# Altium integrated library Micron Memory Parallel NOR Flash.IntLib: 720 symbols (part 144 of 216)
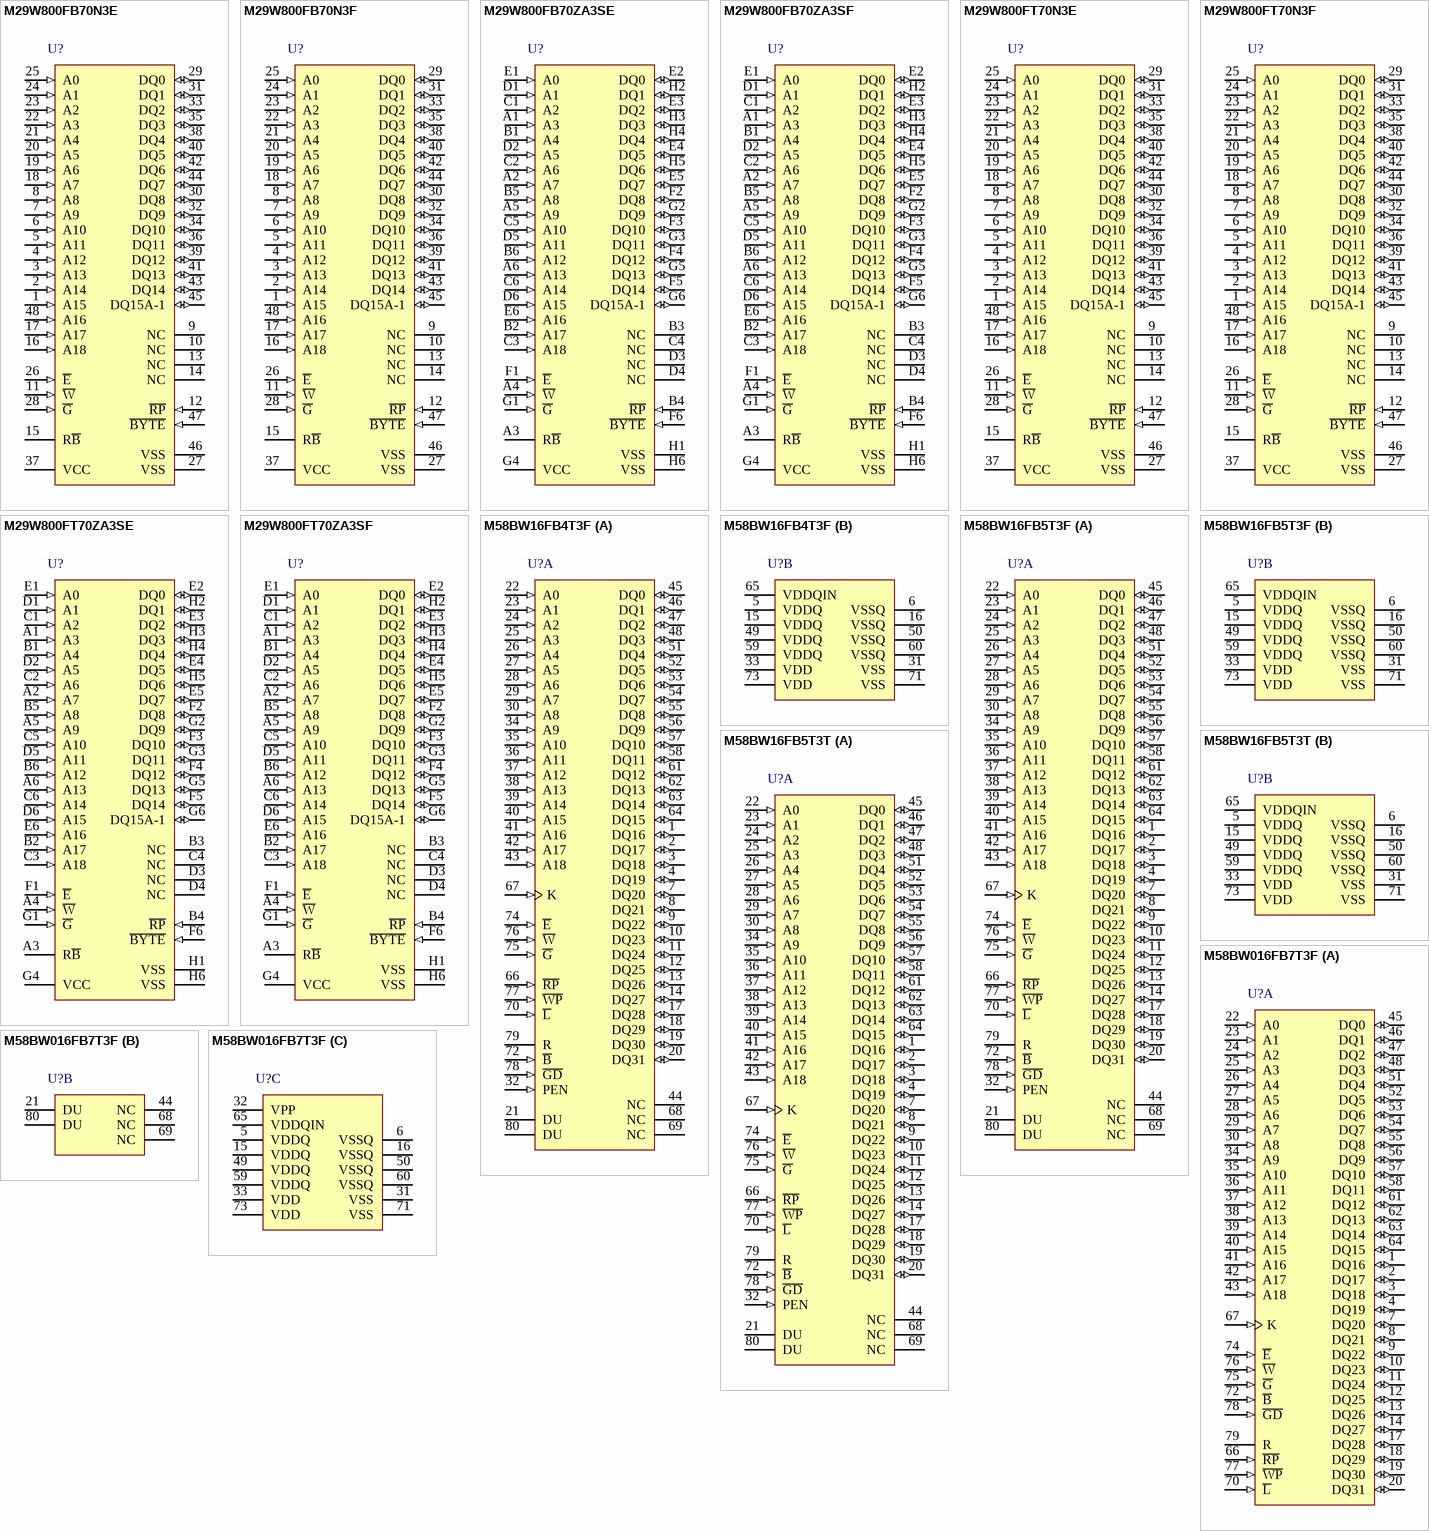
[diagram p280: symbols M29W800FB70N3E to M58BW016FB7T3F]

## M58BW16FB5T3F
designator U?
16 Mb (x32) Automotive Parallel NOR Flash Memory, 55 ns, 2.7 to 3.6 V, 80-pin PQFP (T), Tape & Reel; Part Family: M58BW; Manufacturer: Micron; PartNumber: M58BW16FB5T3F; Density: 16Mb; Op Temp: -40C to +125C; Speed: 55ns; Voltage: 2.7V-3.6V; DatasheetVersion: Rev. 6; PackageVersion: Rev 18; PackageReference: MICT-T-80; PackageDescription: 80-Pin PQFP, 20 X 14 mm, Pitch 0.8 mm; RoHS: Yes; Width: x32; Mounting Technology: Surface Mount; ComponentLink1Description: Manufacturer URL; ComponentLink1URL: http://www.micron.com/; ComponentLink2Description: Datasheet; ComponentLink2URL: http://www.micron.com/~/media/Documents/Products/Data%20Sheet/NOR%20Flash/M58BW16_32F.pdf; ComponentLink3Description: Package Specification; ComponentLink3URL: http://www.micron.com/~/media/Documents/Products/Data%20Sheet/NOR%20Flash/Parallel/P30/306666_P30_130nm_Discrete_DS.pdf
footprint MICT-T-80_N (QFP, 80-Leads, Body 20x14mm, Pitch 0.8mm, IPC Medium Density)
part A pins: 1 DQ16 (io) "The Data inputs/outputs output the data stored at the selected address during a Bus Read  operation, or are used to input the data during a program operation. During Bus Write  operations they represent the commands sent to (See Datasheet)", 2 DQ17 (io) "The Data inputs/outputs output the data stored at the selected address during a Bus Read  operation, or are used to input the data during a program operation. During Bus Write  operations they represent the commands sent to (See Datasheet)", 3 DQ18 (io) "The Data inputs/outputs output the data stored at the selected address during a Bus Read  operation, or are used to input the data during a program operation. During Bus Write  operations they represent the commands sent to (See Datasheet)", 4 DQ19 (io) "The Data inputs/outputs output the data stored at the selected address during a Bus Read  operation, or are used to input the data during a program operation. During Bus Write  operations they represent the commands sent to (See Datasheet)", 7 DQ20 (io) "The Data inputs/outputs output the data stored at the selected address during a Bus Read  operation, or are used to input the data during a program operation. During Bus Write  operations they represent the commands sent to (See Datasheet)", 8 DQ21 (io) "The Data inputs/outputs output the data stored at the selected address during a Bus Read  operation, or are used to input the data during a program operation. During Bus Write  operations they represent the commands sent to (See Datasheet)", 9 DQ22 (io) "The Data inputs/outputs output the data stored at the selected address during a Bus Read  operation, or are used to input the data during a program operation. During Bus Write  operations they represent the commands sent to (See Datasheet)", 10 DQ23 (io) "The Data inputs/outputs output the data stored at the selected address during a Bus Read  operation, or are used to input the data during a program operation. During Bus Write  operations they represent the commands sent to (See Datasheet)", 11 DQ24 (io) "The Data inputs/outputs output the data stored at the selected address during a Bus Read  operation, or are used to input the data during a program operation. During Bus Write  operations they represent the commands sent to (See Datasheet)", 12 DQ25 (io) "The Data inputs/outputs output the data stored at the selected address during a Bus Read  operation, or are used to input the data during a program operation. During Bus Write  operations they represent the commands sent to (See Datasheet)", 13 DQ26 (io) "The Data inputs/outputs output the data stored at the selected address during a Bus Read  operation, or are used to input the data during a program operation. During Bus Write  operations they represent the commands sent to (See Datasheet)", 14 DQ27 (io) "The Data inputs/outputs output the data stored at the selected address during a Bus Read  operation, or are used to input the data during a program operation. During Bus Write  operations they represent the commands sent to (See Datasheet)", 17 DQ28 (io) "The Data inputs/outputs output the data stored at the selected address during a Bus Read  operation, or are used to input the data during a program operation. During Bus Write  operations they represent the commands sent to (See Datasheet)", 18 DQ29 (io) "The Data inputs/outputs output the data stored at the selected address during a Bus Read  operation, or are used to input the data during a program operation. During Bus Write  operations they represent the commands sent to (See Datasheet)", 19 DQ30 (io) "The Data inputs/outputs output the data stored at the selected address during a Bus Read  operation, or are used to input the data during a program operation. During Bus Write  operations they represent the commands sent to (See Datasheet)", 20 DQ31 (io) "The Data inputs/outputs output the data stored at the selected address during a Bus Read  operation, or are used to input the data during a program operation. During Bus Write  operations they represent the commands sent to (See Datasheet)", 21 DU "This pin should not be used as it is internally connected. Its voltage level can be between  VSS  and VDDQ or leave it unconnected.", 22 A0 (in) "The Address inputs are used to select the cells to access in the memory array during Bus  operations. During Bus Write operations they control the commands sent to the command  interface of the Program/Erase controller. Chip (See Datasheet)", 23 A1 (in) "The Address inputs are used to select the cells to access in the memory array during Bus  operations. During Bus Write operations they control the commands sent to the command  interface of the Program/Erase controller. Chip (See Datasheet)", 24 A2 (in) "The Address inputs are used to select the cells to access in the memory array during Bus  operations. During Bus Write operations they control the commands sent to the command  interface of the Program/Erase controller. Chip (See Datasheet)", 25 A3 (in) "The Address inputs are used to select the cells to access in the memory array during Bus  operations. During Bus Write operations they control the commands sent to the command  interface of the Program/Erase controller. Chip (See Datasheet)", 26 A4 (in) "The Address inputs are used to select the cells to access in the memory array during Bus  operations. During Bus Write operations they control the commands sent to the command  interface of the Program/Erase controller. Chip (See Datasheet)", 27 A5 (in) "The Address inputs are used to select the cells to access in the memory array during Bus  operations. During Bus Write operations they control the commands sent to the command  interface of the Program/Erase controller. Chip (See Datasheet)", 28 A6 (in) "The Address inputs are used to select the cells to access in the memory array during Bus  operations. During Bus Write operations they control the commands sent to the command  interface of the Program/Erase controller. Chip (See Datasheet)", 29 A7 (in) "The Address inputs are used to select the cells to access in the memory array during Bus  operations. During Bus Write operations they control the commands sent to the command  interface of the Program/Erase controller. Chip (See Datasheet)", 30 A8 (in) "The Address inputs are used to select the cells to access in the memory array during Bus  operations. During Bus Write operations they control the commands sent to the command  interface of the Program/Erase controller. Chip (See Datasheet)", 32 PEN (in) "The Program/Erase Enable input, PEN, protects all blocks by preventing Program and  Erase operations from modifying the data. Prior to issuing a Program or Erase command, the Program/Erase Enable must be set to  High (VIH). (See Datasheet)", 34 A9 (in) "The Address inputs are used to select the cells to access in the memory array during Bus  operations. During Bus Write operations they control the commands sent to the command  interface of the Program/Erase controller. Chip (See Datasheet)", 35 A10 (in) "The Address inputs are used to select the cells to access in the memory array during Bus  operations. During Bus Write operations they control the commands sent to the command  interface of the Program/Erase controller. Chip (See Datasheet)", 36 A11 (in) "The Address inputs are used to select the cells to access in the memory array during Bus  operations. During Bus Write operations they control the commands sent to the command  interface of the Program/Erase controller. Chip (See Datasheet)", 37 A12 (in) "The Address inputs are used to select the cells to access in the memory array during Bus  operations. During Bus Write operations they control the commands sent to the command  interface of the Program/Erase controller. Chip (See Datasheet)", 38 A13 (in) "The Address inputs are used to select the cells to access in the memory array during Bus  operations. During Bus Write operations they control the commands sent to the command  interface of the Program/Erase controller. Chip (See Datasheet)", 39 A14 (in) "The Address inputs are used to select the cells to access in the memory array during Bus  operations. During Bus Write operations they control the commands sent to the command  interface of the Program/Erase controller. Chip (See Datasheet)", 40 A15 (in) "The Address inputs are used to select the cells to access in the memory array during Bus  operations. During Bus Write operations they control the commands sent to the command  interface of the Program/Erase controller. Chip (See Datasheet)", 41 A16 (in) "The Address inputs are used to select the cells to access in the memory array during Bus  operations. During Bus Write operations they control the commands sent to the command  interface of the Program/Erase controller. Chip (See Datasheet)", 42 A17 (in) "The Address inputs are used to select the cells to access in the memory array during Bus  operations. During Bus Write operations they control the commands sent to the command  interface of the Program/Erase controller. Chip (See Datasheet)", 43 A18 (in) "The Address inputs are used to select the cells to access in the memory array during Bus  operations. During Bus Write operations they control the commands sent to the command  interface of the Program/Erase controller. Chip (See Datasheet)", 44 NC "This pin is not physically connected to the device.", 45 DQ0 (io) "The Data inputs/outputs output the data stored at the selected address during a Bus Read  operation, or are used to input the data during a program operation. During Bus Write  operations they represent the commands sent to (See Datasheet)", 46 DQ1 (io) "The Data inputs/outputs output the data stored at the selected address during a Bus Read  operation, or are used to input the data during a program operation. During Bus Write  operations they represent the commands sent to (See Datasheet)", 47 DQ2 (io) "The Data inputs/outputs output the data stored at the selected address during a Bus Read  operation, or are used to input the data during a program operation. During Bus Write  operations they represent the commands sent to (See Datasheet)", 48 DQ3 (io) "The Data inputs/outputs output the data stored at the selected address during a Bus Read  operation, or are used to input the data during a program operation. During Bus Write  operations they represent the commands sent to (See Datasheet)", 51 DQ4 (io) "The Data inputs/outputs output the data stored at the selected address during a Bus Read  operation, or are used to input the data during a program operation. During Bus Write  operations they represent the commands sent to (See Datasheet)", 52 DQ5 (io) "The Data inputs/outputs output the data stored at the selected address during a Bus Read  operation, or are used to input the data during a program operation. During Bus Write  operations they represent the commands sent to (See Datasheet)", 53 DQ6 (io) "The Data inputs/outputs output the data stored at the selected address during a Bus Read  operation, or are used to input the data during a program operation. During Bus Write  operations they represent the commands sent to (See Datasheet)", 54 DQ7 (io) "The Data inputs/outputs output the data stored at the selected address during a Bus Read  operation, or are used to input the data during a program operation. During Bus Write  operations they represent the commands sent to (See Datasheet)", 55 DQ8 (io) "The Data inputs/outputs output the data stored at the selected address during a Bus Read  operation, or are used to input the data during a program operation. During Bus Write  operations they represent the commands sent to (See Datasheet)", 56 DQ9 (io) "The Data inputs/outputs output the data stored at the selected address during a Bus Read  operation, or are used to input the data during a program operation. During Bus Write  operations they represent the commands sent to (See Datasheet)", 57 DQ10 (io) "The Data inputs/outputs output the data stored at the selected address during a Bus Read  operation, or are used to input the data during a program operation. During Bus Write  operations they represent the commands sent to (See Datasheet)", 58 DQ11 (io) "The Data inputs/outputs output the data stored at the selected address during a Bus Read  operation, or are used to input the data during a program operation. During Bus Write  operations they represent the commands sent to (See Datasheet)", 61 DQ12 (io) "The Data inputs/outputs output the data stored at the selected address during a Bus Read  operation, or are used to input the data during a program operation. During Bus Write  operations they represent the commands sent to (See Datasheet)", 62 DQ13 (io) "The Data inputs/outputs output the data stored at the selected address during a Bus Read  operation, or are used to input the data during a program operation. During Bus Write  operations they represent the commands sent to (See Datasheet)", 63 DQ14 (io) "The Data inputs/outputs output the data stored at the selected address during a Bus Read  operation, or are used to input the data during a program operation. During Bus Write  operations they represent the commands sent to (See Datasheet)", 64 DQ15 (io) "The Data inputs/outputs output the data stored at the selected address during a Bus Read  operation, or are used to input the data during a program operation. During Bus Write  operations they represent the commands sent to (See Datasheet)", 66 ~{RP} (in) "The Reset/Power-down, RP, is used to apply a hardware reset to the memory. A hardware  reset is achieved by holding Reset/Power-down Low, VIL , for at least tPLPH. Writing is  inhibited to protect data, the command interface (See Datasheet)", 67 K (in) "The Burst Clock, K, is used to synchronize the memory with the external bus during  Synchronous Burst Read operations. Bus signals are latched on the active edge of the  Clock. In Synchronous Burst Read mode the address is (See Datasheet)", 68 NC "This pin is not physically connected to the device.", 69 NC "This pin is not physically connected to the device.", 70 ~{L} (in) "The Bus Interface can be configured to latch the Address inputs on the rising edge of Latch  Enable, L, for Asynchronous Latch Enable Controlled Read or Write or Synchronous Burst  Read operations. In Synchronous Burst Read (See Datasheet)", 72 ~{B} (in) "The Burst Address Advance, B, controls the advancing of the address by the internal  address counter during Synchronous Burst Read operations. Burst Address Advance, B, is only sampled on the active clock edge of the Clock (See Datasheet)", 74 ~{E} (in) "The Chip Enable, E, input activates the memory control logic, input buffers, decoders and  sense amplifiers. Chip Enable, E, at VIH deselects the memory and reduces the power  consumption to the standby level.", 75 ~{G} (in) "The Output Enable, G, gates the outputs through the data output buffers during a Read  operation, when Output Disable GD is at VIH. When Output Enable G is at VIH, the outputs  are high impedance independently of Output (See Datasheet)", 76 ~{W} (in) "The Write Enable, W, input controls writing to the command interface, input address and  data latches. Both addresses and data can be latched on the rising edge of Write Enable  (also see Latch Enable, L).", 77 ~{WP} (in) "The Write Protect, WP, provides protection against Program or Erase operations. When  Write Protect, WP, is at VIL , the protection status that has been configured in the Block  Protection Configuration Register is activated.(See Datasheet)", 78 ~{GD} (in) "The Output Disable, GD, deactivates the data output buffers. When Output Disable, GD, is  at VIH, the outputs are driven by the Output Enable. When Output Disable, GD, is at VIL , the  outputs are high impedance (See Datasheet)", 79 R (hiz) "The Valid Data Ready output, R, can be used during Synchronous Burst Read operations to  identify if the memory is ready to output data or not. The Valid Data Ready output can be  configured to be active on the clock edge of (See Datasheet)", 80 DU "This pin should not be used as it is internally connected. Its voltage level can be between  VSS  and VDDQ or leave it unconnected."
part B pins: 5 VDDQ (power) "The output supply voltage, VDDQ, is the output buffer power supply for all operations (Read,  Program and Erase) used for DQ0-DQ31 when used as outputs.", 6 VSSQ (power) "The ground VSS is the reference for the internal supply voltage VDD. The ground VSSQ is the  reference for the output and input supplies VDDQ,  and VDDQIN. It is essential to connect VSS and VSSQ together.", 15 VDDQ (power) "The output supply voltage, VDDQ, is the output buffer power supply for all operations (Read,  Program and Erase) used for DQ0-DQ31 when used as outputs.", 16 VSSQ (power) "The ground VSS is the reference for the internal supply voltage VDD. The ground VSSQ is the  reference for the output and input supplies VDDQ,  and VDDQIN. It is essential to connect VSS and VSSQ together.", 31 VSS (power) "The ground VSS is the reference for the internal supply voltage VDD. The ground VSSQ is the  reference for the output and input supplies VDDQ,  and VDDQIN. It is essential to connect VSS and VSSQ together.", 33 VDD (power) "The supply voltage, VDD, is the core power supply. All internal circuits draw their current  from the VDD pin, including the Program/Erase controller.", 49 VDDQ (power) "The output supply voltage, VDDQ, is the output buffer power supply for all operations (Read,  Program and Erase) used for DQ0-DQ31 when used as outputs.", 50 VSSQ (power) "The ground VSS is the reference for the internal supply voltage VDD. The ground VSSQ is the  reference for the output and input supplies VDDQ,  and VDDQIN. It is essential to connect VSS and VSSQ together.", 59 VDDQ (power) "The output supply voltage, VDDQ, is the output buffer power supply for all operations (Read,  Program and Erase) used for DQ0-DQ31 when used as outputs.", 60 VSSQ (power) "The ground VSS is the reference for the internal supply voltage VDD. The ground VSSQ is the  reference for the output and input supplies VDDQ,  and VDDQIN. It is essential to connect VSS and VSSQ together", 65 VDDQIN (power) "The input supply voltage, VDDQIN, is the power supply for all input signal. Input signals are: K,  B\, L\, W\, G\D\, G\, E\, A0-Amax and DQ0-DQ31, when used as inputs.", 71 VSS (power) "The ground VSS is the reference for the internal supply voltage VDD. The ground VSSQ is the  reference for the output and input supplies VDDQ,  and VDDQIN. It is essential to connect VSS and VSSQ together.", 73 VDD (power) "The supply voltage, VDD, is the core power supply. All internal circuits draw their current  from the VDD pin, including the Program/Erase controller."